# Altium footprint library EM411-202401-RMC001-000-20240213-T10.PcbLib: 39 footprints (part 3 of 3)
Each footprint in its own frame and in the unit in brackets; x right, y up, seen from the top. Pads: shape width x height; smd on the part's side, far side on the other; paste and mask are expansions set on the pad; w line width, h text height; cw(c..) or ccw(c..) is an arc to the next point about the centre after c.
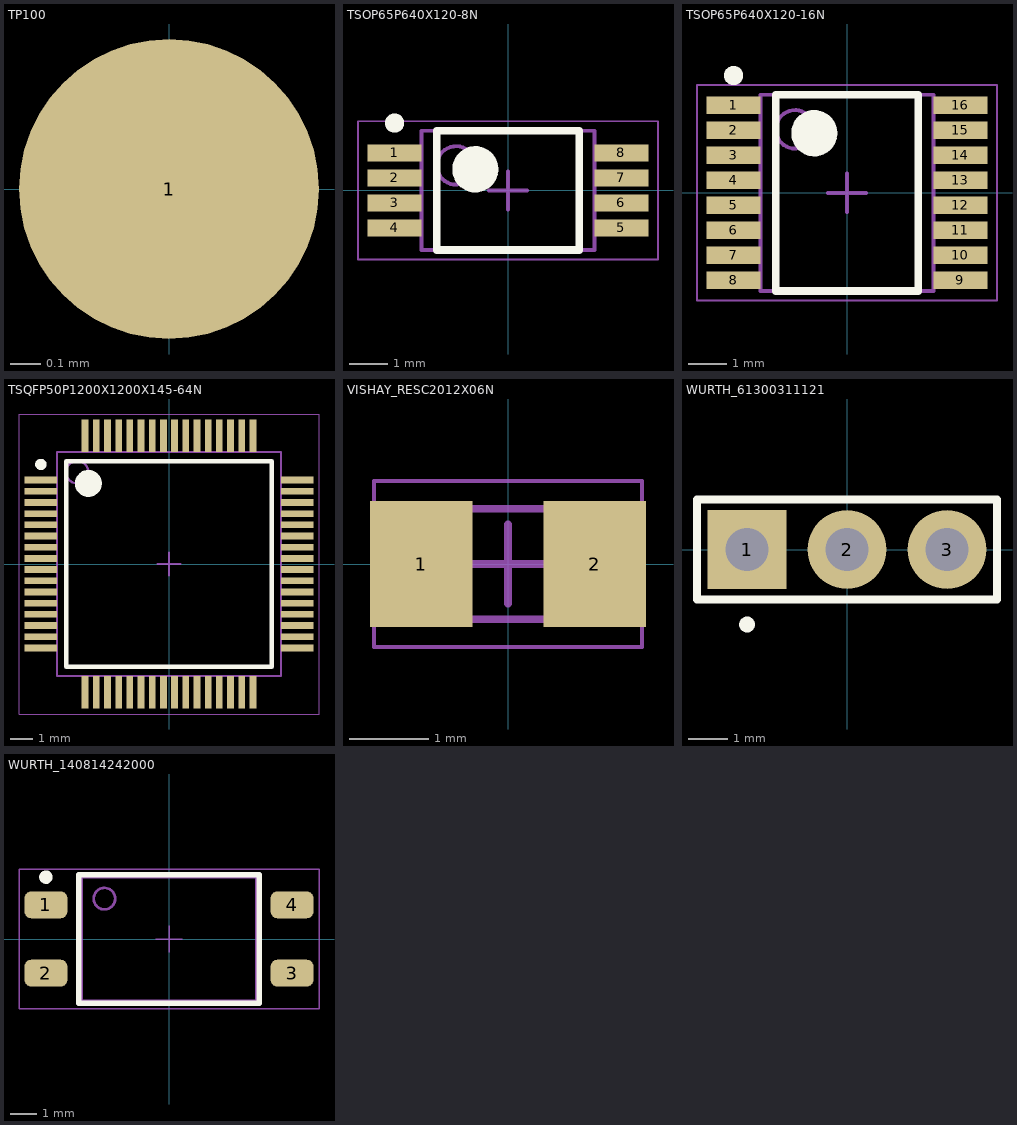
[diagram p2: the footprints below, top view; thin cyan lines are the x and y axes]

## TP100 [mm] "Surface Mount Test Point"
height 7.4
pads (1):
  round 1 smd mask+0.051: 1(0,0)

## TSOP65P640X120-8N [mm] "TSOP, 8-Leads, Body 3.00x4.40mm, Pitch 0.65mm, IPC Medium Density"
height 1.2
pads (8):
  rect 1.4x0.45 smd: 1(-2.95,0.975) 2(-2.95,0.325) 3(-2.95,-0.325) 4(-2.95,-0.975) 5(2.95,-0.975) 6(2.95,-0.325) 7(2.95,0.325) 8(2.95,0.975)
Top Overlay:
  circle w0.6: c-0.85,0.55 r0.3
  circle w0.25: c-2.95,1.75 r0.125
  lines w0.2: -1.85,-1.55 1.85,-1.55 1.85,1.55 -1.85,1.55 -1.85,-1.55
Top Courtyard:
  lines w0.05: -3.9,-1.8 3.9,-1.8 3.9,1.8 -3.9,1.8 -3.9,-1.8
  lines w0.1: -0.5,0 0.5,0 ; 0,-0.5 0,0.5
Mechanical 13:
  circle w0.1: c-1.35,0.65 r0.5
  lines w0.1: -2.25,-1.55 2.25,-1.55 2.25,1.55 -2.25,1.55 -2.25,-1.55
3D body "TSOP65P640X120-8N.step": height 1.2, standoff 0, extent -3.2,-1.55 3.2,1.55

## TSOP65P640X120-16N [mm] "TSOP, 16-Leads, Body 5.00x4.40mm, Pitch 0.65mm, IPC Medium Density"
height 1.2
pads (16):
  rect 1.4x0.45 smd: 1(-2.95,2.275) 2(-2.95,1.625) 3(-2.95,0.975) 4(-2.95,0.325) 5(-2.95,-0.325) 6(-2.95,-0.975) 7(-2.95,-1.625) 8(-2.95,-2.275) 9(2.95,-2.275) 10(2.95,-1.625) 11(2.95,-0.975) 12(2.95,-0.325) 13(2.95,0.325) 14(2.95,0.975) 15(2.95,1.625) 16(2.95,2.275)
Top Overlay:
  circle w0.6: c-0.85,1.55 r0.3
  circle w0.25: c-2.95,3.05 r0.125
  lines w0.2: -1.85,-2.55 1.85,-2.55 1.85,2.55 -1.85,2.55 -1.85,-2.55
Top Courtyard:
  lines w0.05: -3.9,-2.8 3.9,-2.8 3.9,2.8 -3.9,2.8 -3.9,-2.8
  lines w0.1: -0.5,0 0.5,0 ; 0,-0.5 0,0.5
Mechanical 13:
  circle w0.1: c-1.35,1.65 r0.5
  lines w0.1: -2.25,-2.55 2.25,-2.55 2.25,2.55 -2.25,2.55 -2.25,-2.55
3D body "TSOP65P640X120-16N.step": height 1.2, standoff 0, extent -3.2,-2.55 3.2,2.55

## TSQFP50P1200X1200X145-64N [mm] "TSQFP, 64-Leads, Body 10.00x10.00mm, Pitch 0.50mm, IPC Medium Density"
height 1.45
pads (64):
  rect 1.45x0.3 smd: 1(-5.725,3.75) 2(-5.725,3.25) 3(-5.725,2.75) 4(-5.725,2.25) 5(-5.725,1.75) 6(-5.725,1.25) 7(-5.725,0.75) 8(-5.725,0.25) 9(-5.725,-0.25) 10(-5.725,-0.75) 11(-5.725,-1.25) 12(-5.725,-1.75) 13(-5.725,-2.25) 14(-5.725,-2.75) 15(-5.725,-3.25) 16(-5.725,-3.75) 33(5.725,-3.75) 34(5.725,-3.25) 35(5.725,-2.75) 36(5.725,-2.25) 37(5.725,-1.75) 38(5.725,-1.25) 39(5.725,-0.75) 40(5.725,-0.25) 41(5.725,0.25) 42(5.725,0.75) 43(5.725,1.25) 44(5.725,1.75) 45(5.725,2.25) 46(5.725,2.75) 47(5.725,3.25) 48(5.725,3.75)
  rect 0.3x1.45 smd: 17(-3.75,-5.725) 18(-3.25,-5.725) 19(-2.75,-5.725) 20(-2.25,-5.725) 21(-1.75,-5.725) 22(-1.25,-5.725) 23(-0.75,-5.725) 24(-0.25,-5.725) 25(0.25,-5.725) 26(0.75,-5.725) 27(1.25,-5.725) 28(1.75,-5.725) 29(2.25,-5.725) 30(2.75,-5.725) 31(3.25,-5.725) 32(3.75,-5.725) 49(3.75,5.725) 50(3.25,5.725) 51(2.75,5.725) 52(2.25,5.725) 53(1.75,5.725) 54(1.25,5.725) 55(0.75,5.725) 56(0.25,5.725) 57(-0.25,5.725) 58(-0.75,5.725) 59(-1.25,5.725) 60(-1.75,5.725) 61(-2.25,5.725) 62(-2.75,5.725) 63(-3.25,5.725) 64(-3.75,5.725)
Top Overlay:
  circle w0.6: c-3.6,3.6 r0.3
  circle w0.25: c-5.725,4.45 r0.125
  lines w0.2: -4.6,-4.6 4.6,-4.6 4.6,4.6 -4.6,4.6 -4.6,-4.6
Top Courtyard:
  lines w0.05: -6.7,-6.7 6.7,-6.7 6.7,6.7 -6.7,6.7 -6.7,-6.7
  lines w0.1: -0.5,0 0.5,0 ; 0,-0.5 0,0.5
Mechanical 13:
  circle w0.1: c-4.1,4.1 r0.5
  lines w0.1: -5,-5 5,-5 5,5 -5,5 -5,-5
3D body "TSQFP50P1200X1200X145-64N.step": height 1.45, standoff 0, extent -6,-6 6,6

## VISHAY_RESC2012X06N [mm] "Chip Resistor, 2-Leads, Body 2.00x1.25mm, IPC Medium Density"
height 0.6
pads (2):
  rect 1.3x1.6 smd: 1(-1.1,0) 2(1.1,0)
Top Courtyard:
  lines w0.05: -1.7,-1.05 -1.7,1.05 1.7,1.05 1.7,-1.05 -1.7,-1.05
  lines w0.1: -0.5,0 0.5,0 ; 0,-0.5 0,0.5
Mechanical 13:
  lines w0.1: -1.075,-0.7 -1.075,0.7 1.075,0.7 1.075,-0.7 -1.075,-0.7
3D body "VISHAY_RESC2012X06N.step": height 0.6, standoff 0, extent -1.075,-0.7 1.075,0.7

## WURTH_61300311121 [mm]
height 7.4
pads (3):
  rect 2x2 hole 1.1: 1(-2.54,0)
  round 2 hole 1.1: 2(0,0) 3(2.54,0)
Top Overlay:
  circle w0.2: c-2.54,-1.905 r0.1
  lines w0.2: -3.81,-1.27 3.81,-1.27 3.81,1.27 -3.81,1.27 -3.81,-1.27
3D body "TSW-103-07-G-S.stp": height 8.41, standoff -2.51, extent -3.937,-1.27 3.81,1.27

## WURTH_140814242000 [mm] "Optocoupler Phototransistor, body 6.5x4.58mm"
height 4.3
pads (4):
  rrect50% 1.6x1 smd: 1(-4.575,1.27) 2(-4.575,-1.27) 3(4.575,-1.27) 4(4.575,1.27)
Top Overlay:
  circle w0.25: c-4.575,2.3 r0.125
  lines w0.2: -3.35,-2.39 3.35,-2.39 3.35,2.39 -3.35,2.39 -3.35,-2.39
Top 3D Body:
  circle w0.1: c-2.4,1.5 r0.4
  lines w0.1: -3.25,-2.29 -3.25,2.29 3.25,2.29 3.25,-2.29 -3.25,-2.29
Top Courtyard:
  lines w0.05: -0.5,0 0.5,0 ; 0,-0.5 0,0.5 ; -5.575,-2.59 -5.575,2.59 5.575,2.59 5.575,-2.59 -5.575,-2.59
Top Component Outline:
  circle w0.1: c-2.4,1.5 r0.4
  lines w0.1: -3.25,-2.29 3.25,-2.29 3.25,2.29 -3.25,2.29 -3.25,-2.29
3D body "WL-OCTP_DIP4_816_S_rev1.stp": height 4.3, standoff -0.01, extent -5.075,-2.29 5.075,2.29